# EAGLE library part MC9S12XF-64 (library freescale)
MC9S12XF512 Source: www.freescale.com .. MC9S12XF512V1RM.pdf
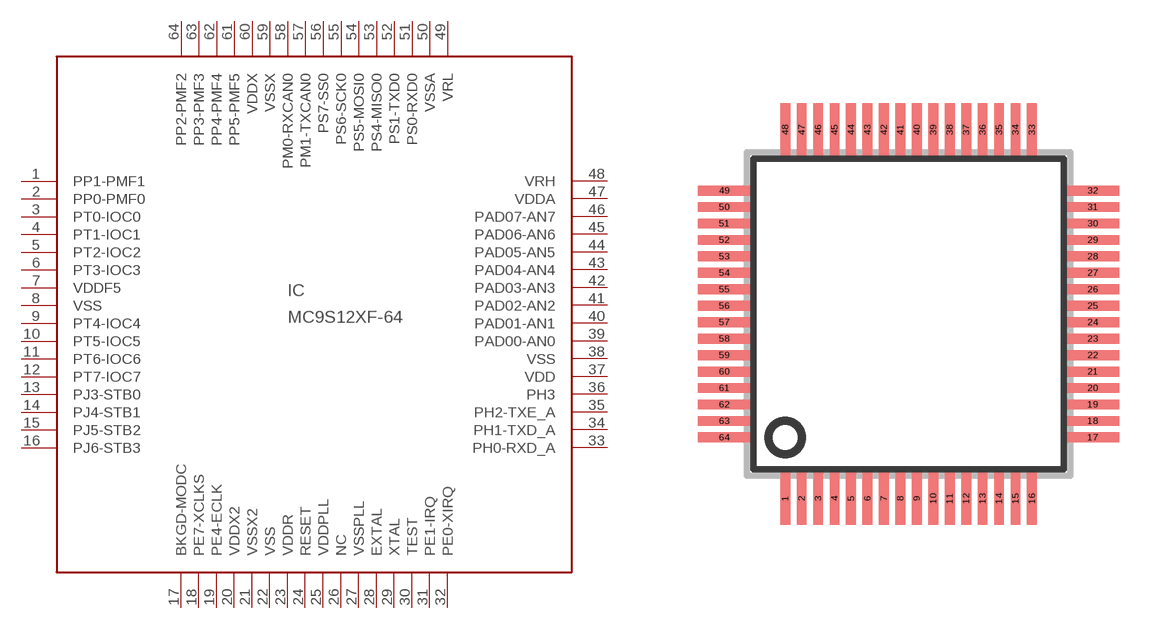
[diagram p10: symbol with the pads of SQFP-S-10X10-64; footprint SQFP-S-10X10-64]

Designator prefix IC

## MC9S12XF-64 (OC_FARNELL: unknown; OC_NEWARK: unknown)  [SQFP-S-10X10-64]
1  PP1-PMF1
2  PP0-PMF0
3  PT0-IOC0
4  PT1-IOC1
5  PT2-IOC2
6  PT3-IOC3
7  VDDF5  pwr
8  VSS  pwr
9  PT4-IOC4
10  PT5-IOC5
11  PT6-IOC6
12  PT7-IOC7
13  PJ3-STB0
14  PJ4-STB1
15  PJ5-STB2
16  PJ6-STB3
17  BKGD-MODC
18  PE7-XCLKS
19  PE4-ECLK
20  VDDX2  pwr
21  VSSX2  pwr
22  VSS  pwr
23  VDDR  pwr
24  RESET
25  VDDPLL  pwr
26  NC  nc
27  VSSPLL  pwr
28  EXTAL  pas
29  XTAL  pas
30  TEST  in
31  PE1-IRQ  in
32  PE0-XIRQ  in
33  PH0-RXD_A
34  PH1-TXD_A
35  PH2-TXE_A
36  PH3
37  VDD  pwr
38  VSS  pwr
39  PAD00-AN0
40  PAD01-AN1
41  PAD02-AN2
42  PAD03-AN3
43  PAD04-AN4
44  PAD05-AN5
45  PAD06-AN6
46  PAD07-AN7
47  VDDA  pwr
48  VRH  pwr
49  VRL  pwr
50  VSSA  pwr
51  PS0-RXD0
52  PS1-TXD0
53  PS4-MISO0
54  PS5-MOSI0
55  PS6-SCK0
56  PS7-SS0
57  PM1-TXCAN0
58  PM0-RXCAN0
59  VSSX  pwr
60  VDDX  pwr
61  PP5-PMF5
62  PP4-PMF4
63  PP3-PMF3
64  PP2-PMF2

## Footprint SQFP-S-10X10-64 (pad centres in mm)
QFP64 shrink quad flat pack, square
smd 0.3 x 1.6: 1 -3.75,-5.6; 2 -3.25,-5.6; 3 -2.75,-5.6; 4 -2.25,-5.6; 5 -1.75,-5.6; 6 -1.25,-5.6; 7 -0.75,-5.6; 8 -0.25,-5.6; 9 0.25,-5.6; 10 0.75,-5.6; 11 1.25,-5.6; 12 1.75,-5.6; 13 2.25,-5.6; 14 2.75,-5.6; 15 3.25,-5.6; 16 3.75,-5.6; 33 3.75,5.6; 34 3.25,5.6; 35 2.75,5.6; 36 2.25,5.6; 37 1.75,5.6; 38 1.25,5.6; 39 0.75,5.6; 40 0.25,5.6; 41 -0.25,5.6; 42 -0.75,5.6; 43 -1.25,5.6; 44 -1.75,5.6; 45 -2.25,5.6; 46 -2.75,5.6; 47 -3.25,5.6; 48 -3.75,5.6
smd 1.6 x 0.3: 17 5.6,-3.75; 18 5.6,-3.25; 19 5.6,-2.75; 20 5.6,-2.25; 21 5.6,-1.75; 22 5.6,-1.25; 23 5.6,-0.75; 24 5.6,-0.25; 25 5.6,0.25; 26 5.6,0.75; 27 5.6,1.25; 28 5.6,1.75; 29 5.6,2.25; 30 5.6,2.75; 31 5.6,3.25; 32 5.6,3.75; 49 -5.6,3.75; 50 -5.6,3.25; 51 -5.6,2.75; 52 -5.6,2.25; 53 -5.6,1.75; 54 -5.6,1.25; 55 -5.6,0.75; 56 -5.6,0.25; 57 -5.6,-0.25; 58 -5.6,-0.75; 59 -5.6,-1.25; 60 -5.6,-1.75; 61 -5.6,-2.25; 62 -5.6,-2.75; 63 -5.6,-3.25; 64 -5.6,-3.75